# Altium schematic symbol library stmicroelectronics.SchLib: 4 symbols
Pins are listed as number, name and electrical type; pins without a type are passive.

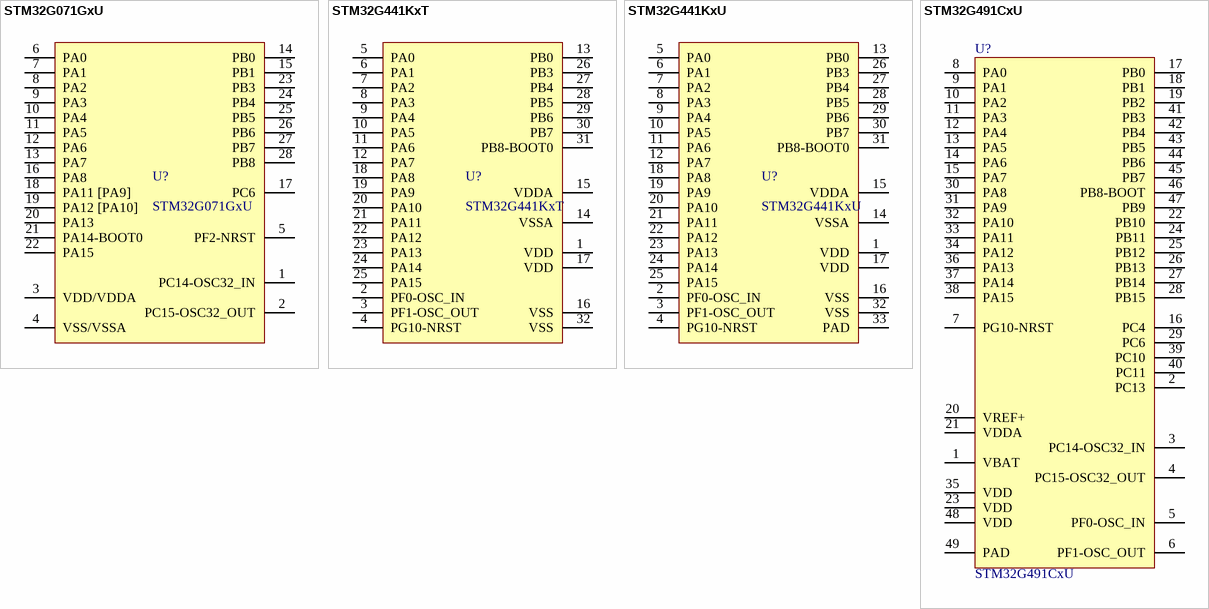
[diagram p0: symbols STM32G071GxU to STM32G491CxU]

## STM32G071GxU
designator U?
footprint UFQFPN28 (QFN, 28-Leads, Body 4,00x4,00mm, Pitch 0,50mm, IPC Medium Density)
pins: 1 PC14-OSC32_IN, 2 PC15-OSC32_OUT, 3 VDD/VDDA, 4 VSS/VSSA, 5 PF2-NRST, 6 PA0, 7 PA1, 8 PA2, 9 PA3, 10 PA4, 11 PA5, 12 PA6, 13 PA7, 14 PB0, 15 PB1, 16 PA8, 17 PC6, 18 PA11 [PA9], 19 PA12 [PA10], 20 PA13, 21 PA14-BOOT0, 22 PA15, 23 PB3, 24 PB4, 25 PB5, 26 PB6, 27 PB7, 28 PB8

## STM32G441KxT
designator U?
footprint LQFP32 (TQFP, 32-Leads, Body 7,00x7,00mm, Pitch 0,80mm, IPC Medium Density)
pins: 1 VDD, 2 PF0-OSC_IN, 3 PF1-OSC_OUT, 4 PG10-NRST, 5 PA0, 6 PA1, 7 PA2, 8 PA3, 9 PA4, 10 PA5, 11 PA6, 12 PA7, 13 PB0, 14 VSSA, 15 VDDA, 16 VSS, 17 VDD, 18 PA8, 19 PA9, 20 PA10, 21 PA11, 22 PA12, 23 PA13, 24 PA14, 25 PA15, 26 PB3, 27 PB4, 28 PB5, 29 PB6, 30 PB7, 31 PB8-BOOT0, 32 VSS

## STM32G441KxU
designator U?
footprint UFQFPN32
pins: 1 VDD, 2 PF0-OSC_IN, 3 PF1-OSC_OUT, 4 PG10-NRST, 5 PA0, 6 PA1, 7 PA2, 8 PA3, 9 PA4, 10 PA5, 11 PA6, 12 PA7, 13 PB0, 14 VSSA, 15 VDDA, 16 VSS, 17 VDD, 18 PA8, 19 PA9, 20 PA10, 21 PA11, 22 PA12, 23 PA13, 24 PA14, 25 PA15, 26 PB3, 27 PB4, 28 PB5, 29 PB6, 30 PB7, 31 PB8-BOOT0, 32 VSS, 33 PAD

## STM32G491CxU
designator U?
footprint UFQFPN48 (QFN, 48-Leads, Body 7,00x7,00mm, Pitch 0,50mm, Thermal Pad 5,60x5,60mm, IPC Medium Density)
pins: 1 VBAT, 2 PC13, 3 PC14-OSC32_IN, 4 PC15-OSC32_OUT, 5 PF0-OSC_IN, 6 PF1-OSC_OUT, 7 PG10-NRST, 8 PA0, 9 PA1, 10 PA2, 11 PA3, 12 PA4, 13 PA5, 14 PA6, 15 PA7, 16 PC4, 17 PB0, 18 PB1, 19 PB2, 20 VREF+, 21 VDDA, 22 PB10, 23 VDD, 24 PB11, 25 PB12, 26 PB13, 27 PB14, 28 PB15, 29 PC6, 30 PA8, 31 PA9, 32 PA10, 33 PA11, 34 PA12, 35 VDD, 36 PA13, 37 PA14, 38 PA15, 39 PC10, 40 PC11, 41 PB3, 42 PB4, 43 PB5, 44 PB6, 45 PB7, 46 PB8-BOOT, 47 PB9, 48 VDD, 49 PAD